# Altium integrated library mod_duo_x.IntLib: 41 symbols (part 2 of 2)
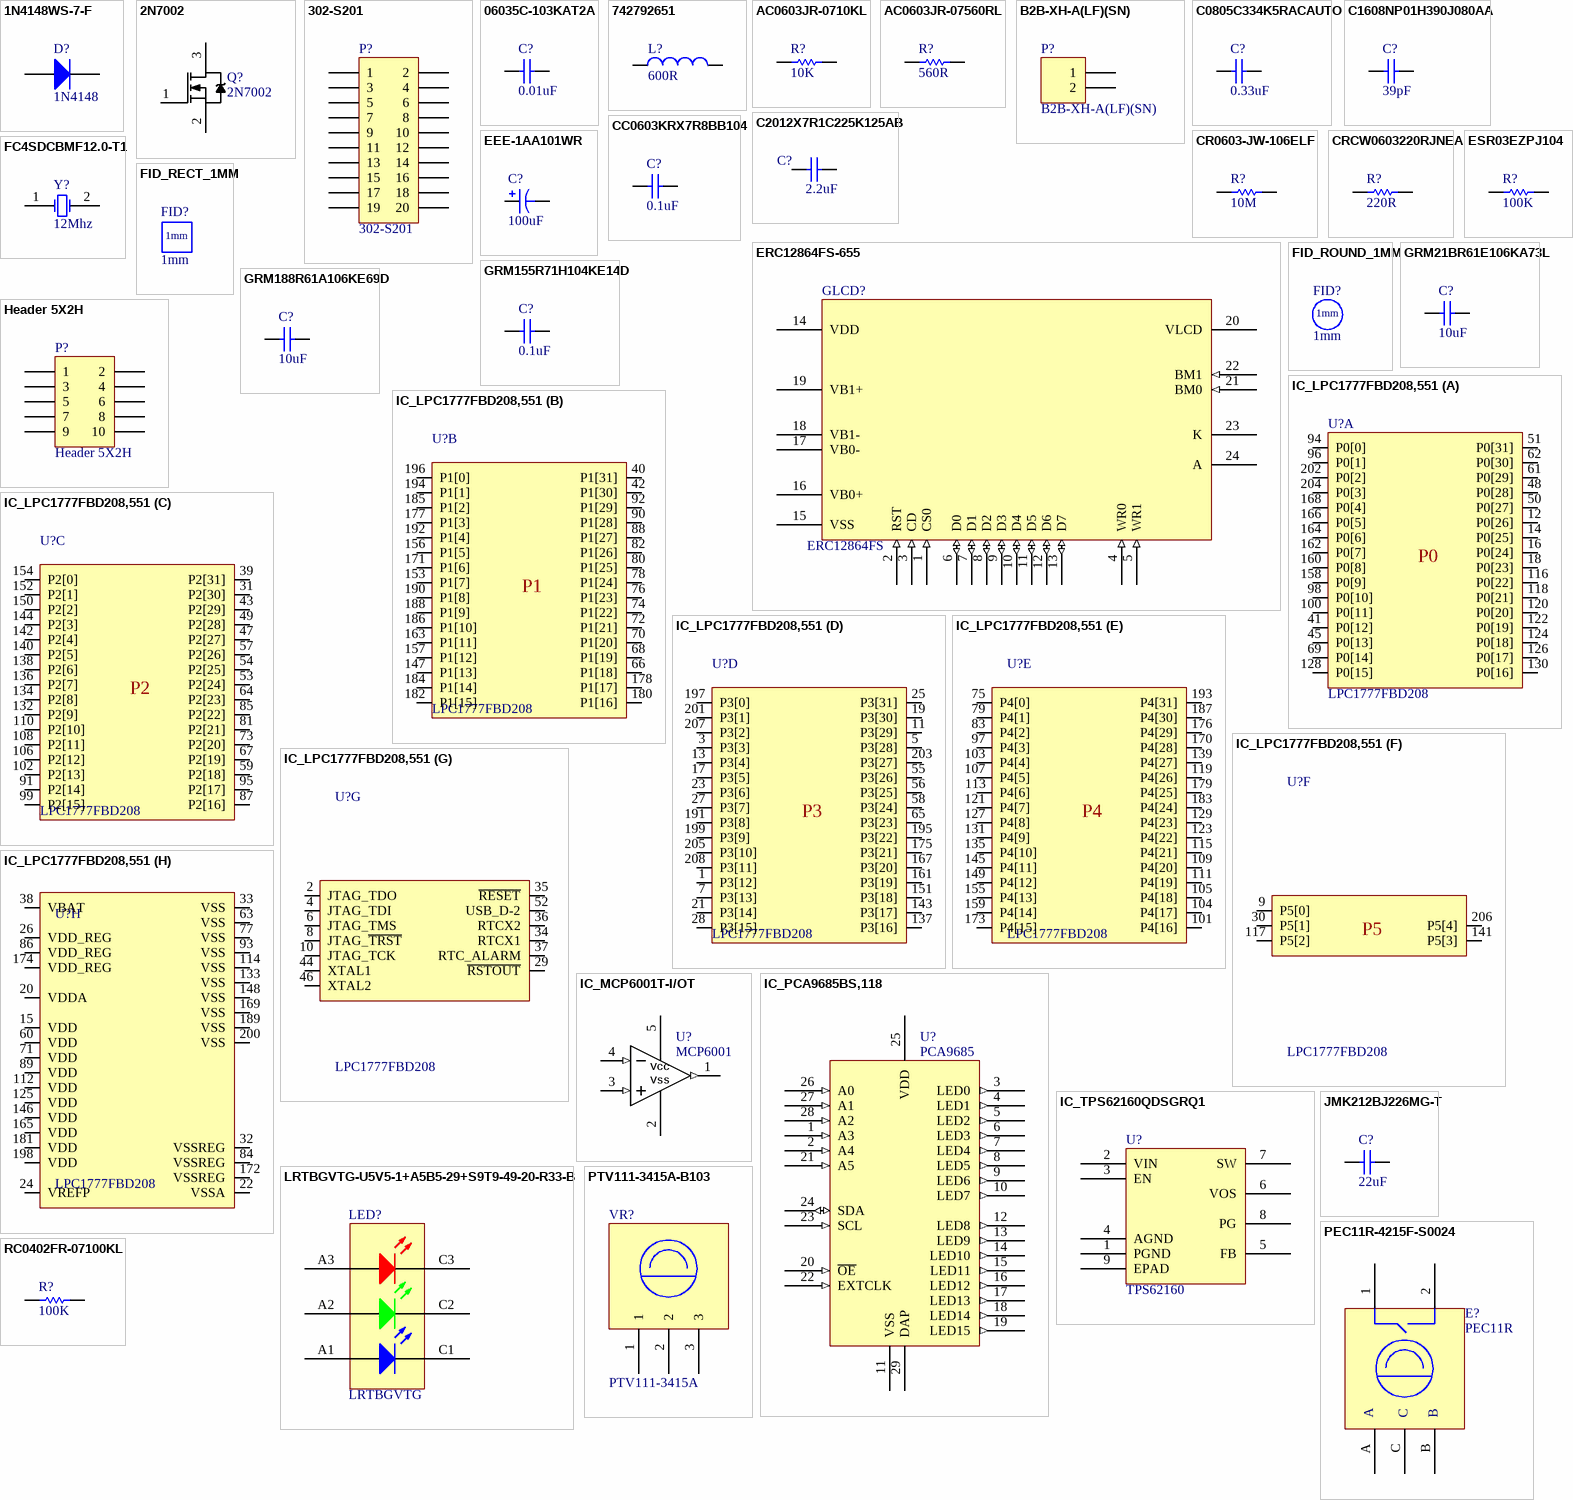
[diagram p2: symbols 1N4148WS-7-F to RC0402FR-07100KL]

## JMK212BJ226MG-T
designator C?, comment 22uF
CAP CER 22UF 6.3V X5R 0805; Manufacturer 1: Taiyo Yuden; Manufacturer Part Number 1: JMK212BJ226MG-T; PCN Part Number: X5R, X7R Dielectrics 23/Jan/2008; Catalog Drawings: xMK Series_0805_1.25; Capacitance: 22µF; Tolerance: ±20%; Online Catalog: M Series; Kits: 587-1797-KIT-ND  - KIT CAP CER HI CAP 0603 & 0805 S; Other Names: 587-1305-1; Supplier 1: Digi-Key; Description 1: CAP CER 22UF 6.3V X5R 0805; Stock 1: 877962; Pricing 1: 1=0.26, 10=0.18, 100=0.1021, 500=0.0721, 1000=0.0631 (USD); Standard Package: 1; Category: Capacitors; Family: Ceramic Capacitors; Series: M; Packaging: Cut Tape (CT); Voltage - Rated: 6.3V; Temperature Coefficient: X5R; Mounting Type: Surface Mount, MLCC; Operating Temperature: -55°C ~ 85°C; Applications: General Purpose; Ratings: -; Package / Case: 0805 (2012 Metric); Size / Dimension: 0.079" L x 0.049" W (2.00mm x 1.25mm); Height - Seated (Max): -; Thickness (Max): 0.053" (1.35mm); Lead Spacing: -; Features: -; Lead Style: -; ComponentLink1URL: https://datasheet.ciiva.com/26872/getdatasheetpartid-637391-26872056.pdf; ComponentLink1Description: https://datasheet.ciiva.com/26872/getdatasheetpartid-637391-26872056.pdf; ComponentLink2URL: https://datasheet.ciiva.com/15921/279jmk212abj226mg-t-15921060.pdf; ComponentLink2Description: https://datasheet.ciiva.com/15921/279jmk212abj226mg-t-15921060.pdf; ComponentLink3URL: https://datasheet.ciiva.com/30094/218jmk212abj226mg-t-30094177.pdf; ComponentLink3Description: https://datasheet.ciiva.com/30094/218jmk212abj226mg-t-30094177.pdf; ComponentLink4URL: https://datasheet.ciiva.com/5424/mlcc-all-e-541559-5424395.pdf; ComponentLink4Description: https://datasheet.ciiva.com/5424/mlcc-all-e-541559-5424395.pdf; ComponentLink5URL: https://datasheet.ciiva.com/137/mlcc-all-e-137394.pdf; ComponentLink5Description: https://datasheet.ciiva.com/137/mlcc-all-e-137394.pdf; ComponentLink6URL: https://datasheet.ciiva.com/137/mlcc-all-e-137395.pdf; ComponentLink6Description: https://datasheet.ciiva.com/137/mlcc-all-e-137395.pdf; ComponentLink7URL: https://datasheet.ciiva.com/137/mlcc-all-e-137396.pdf; ComponentLink7Description: https://datasheet.ciiva.com/137/mlcc-all-e-137396.pdf; Supplier Part Number 1: 587-1305-1-ND
footprint CAPC2012N (Chip Capacitor, Body 2.0x1.3mm, IPC Medium Density)
pins: 1, 2

## LRTBGVTG-U5V5-1+A5B5-29+S9T9-49-20-R33-B
designator LED?, comment LRTBGVTG
LED RGB DIFFUSED 6PLCC SMD; Manufacturer 1: Osram Opto; Manufacturer Part Number 1: LRTBGVTG-U5V5-1+A5B5-29+S9T9-49-20-R33-B; Supplier 1: Digi-Key; Stock 1: 16782; Pricing 1: 1=0.91, 10=0.707, 25=0.586, 100=0.5053, 250=0.44468, 500=0.38404, 1000=0.3032 (USD); Supplier Part Number 1: 475-3547-1-ND
footprint LRTB GVTG
pins: A1, A2, A3, C1, C2, C3

## PEC11R-4215F-S0024
designator E?, comment PEC11R
ENCODER ROTARY 15MM SHAFT; Manufacturer 1: Bourns; Manufacturer Part Number 1: PEC11R-4215F-S0024; Number of Channels: 2; Encoder Type: Mechanical; Pulses per Revolution: 24; Detent: Yes; Output Type: Quadrature,Incremental; Hole Diameter: 1.8mm; Supplier 1: Digi-Key; Stock 1: 2746; Pricing 1: 1=1.68, 10=1.566, 25=1.4792, 50=1.305, 150=1.073, 300=1.044, 600=0.986, 1050=0.928, 5100=0.812 (USD); Mount: Through Hole,Panel,PCB; Min Operating Temperature: -30°C; Max Operating Temperature: 70°C; Package Quantity: 150; Packaging: Bulk; Termination: PC Pins; Orientation: Vertical; Built in Switch: Yes; Type: Mechanical; Length: 21.5mm; Height: 13.4mm; Width: 12.5mm; Radiation Hardening: No; REACH SVHC: No SVHC; ComponentLink1URL: https://datasheet.ciiva.com/26917/getdatasheetpartid-730131-26917851.pdf; ComponentLink1Description: https://datasheet.ciiva.com/26917/getdatasheetpartid-730131-26917851.pdf; ComponentLink2URL: https://datasheet.ciiva.com/12175/pec11r-221203-12175422.pdf; ComponentLink2Description: https://datasheet.ciiva.com/12175/pec11r-221203-12175422.pdf; Supplier Part Number 1: PEC11R-4215F-S0024-ND
footprint PEC11R
pins: 1, 2, A, B, C

## PTV111-3415A-B103
designator VR?, comment PTV111-3415A
POT 10K OHM 1/20W CARBON LINEAR; Manufacturer 1: Bourns; Manufacturer Part Number 1: PTV111-3415A-B103; Resistance: 10kR; Tolerance: 20%; Power Rating: 50mW; Number of Turns: 1; Voltage Rating (DC): 20V; Actuator Length: 0.591inch; Actuator Diameter: 0.236inch; Hole Diameter: 9mm; Supplier 1: Digi-Key; Stock 1: 227; Pricing 1: 1=1.36, 10=1.2, 25=1.08, 50=1.04, 100=1, 300=0.94, 500=0.8, 1000=0.74, 5000=0.608 (USD); Mount: Through Hole,Panel,Brackets; Min Operating Temperature: -10°C; Max Operating Temperature: 50°C; Composition: Potentiometer,Carbon; Type: Potentiometer; Packaging: Bulk; Package Quantity: 100; Taper: Linear; Termination: Pin; Number of Gangs: 1; Military Standard: Not; Max Power Dissipation: 50mW; Length: 12mm; Height: 7.5mm; Radiation Hardening: No; REACH SVHC: No SVHC; ComponentLink1URL: https://datasheet.ciiva.com/11831/0900766b80fa58ed-11831312.pdf; ComponentLink1Description: https://datasheet.ciiva.com/11831/0900766b80fa58ed-11831312.pdf; ComponentLink2URL: https://datasheet.ciiva.com/6249/ptvptt-6249367.pdf; ComponentLink2Description: https://datasheet.ciiva.com/6249/ptvptt-6249367.pdf; Supplier Part Number 1: PTV111-3415A-B103-ND
footprint PTV111-3
pins: 1, 2, 3

## RC0402FR-07100KL
designator R?, comment 100K
RES SMD 100K OHM 1% 1/16W 0402; Manufacturer 1: Yageo; Manufacturer Part Number 1: RC0402FR-07100KL; Resistance: 100 kOhms; Power Rating: 62.5 mW (1/16 W); Voltage Rating: 50 V; Temperature Coefficient: 100 PPM / C; Supplier 1: Digi-Key; Description 1: RES SMD 100K OHM 1% 1/16W 0402; Stock 1: 10691398; Pricing 1: 1=0.1, 10=0.014, 100=0.0056, 1000=0.0025, 2500=0.0022, 5000=0.0018 (USD); Termination Style: SMD/SMT; Product: Thick Film Resistors General Purpose; Tolerance: 1 %; Case Code - in: 0402; Case Code - mm: 1005; Series: RC; Operating Temperature Range: - 55 C to + 155 C; Packaging: Reel; ComponentLink1URL: https://datasheet.ciiva.com/11819/0900766b80c66297-11819452.pdf; ComponentLink1Description: https://datasheet.ciiva.com/11819/0900766b80c66297-11819452.pdf; ComponentLink2URL: https://datasheet.ciiva.com/16740/pyu-rc0402-51-rohs-l-6-r-16740567.pdf; ComponentLink2Description: https://datasheet.ciiva.com/16740/pyu-rc0402-51-rohs-l-6-r-16740567.pdf; ComponentLink3URL: https://datasheet.ciiva.com/12667/pyu-rc0402-51-rohs-l-6-r-12667930.pdf; ComponentLink3Description: https://datasheet.ciiva.com/12667/pyu-rc0402-51-rohs-l-6-r-12667930.pdf; ComponentLink4URL: https://datasheet.ciiva.com/2453/pyu-r-int-thick-7-2453361.pdf; ComponentLink4Description: https://datasheet.ciiva.com/2453/pyu-r-int-thick-7-2453361.pdf; ComponentLink5URL: https://datasheet.ciiva.com/15189/getdatasheetpartid-323696-15189334.pdf; ComponentLink5Description: https://datasheet.ciiva.com/15189/getdatasheetpartid-323696-15189334.pdf; ComponentLink6URL: https://datasheet.ciiva.com/2453/pyu-r-int-thick-7-2453362.pdf; ComponentLink6Description: https://datasheet.ciiva.com/2453/pyu-r-int-thick-7-2453362.pdf; ComponentLink7URL: https://datasheet.ciiva.com/2453/pyu-r-int-thick-7-2453363.pdf; ComponentLink7Description: https://datasheet.ciiva.com/2453/pyu-r-int-thick-7-2453363.pdf; ComponentLink8URL: https://datasheet.ciiva.com/22747/1018594-22747509.pdf; ComponentLink8Description: https://datasheet.ciiva.com/22747/1018594-22747509.pdf; Supplier Part Number 1: 311-100KLRCT-ND
footprint RESC1005N (Chip Resistor, Body 1.1x0.5mm, IPC Medium Density)
pins: 1, 2

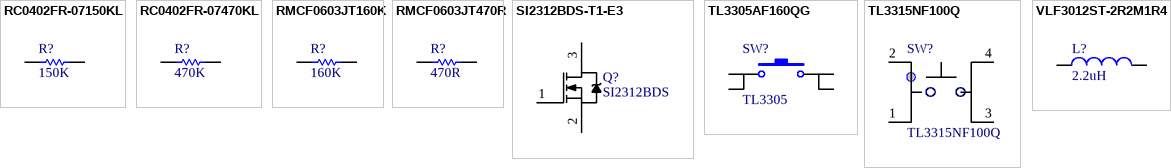
[diagram p1: symbols RC0402FR-07150KL to VLF3012ST-2R2M1R4]

## RC0402FR-07150KL
designator R?, comment 150K
RES SMD 150K OHM 1% 1/16W 0402; Manufacturer 1: Yageo; Manufacturer Part Number 1: RC0402FR-07150KL; Product Range: RC Series; Voltage Rating: 50V; Resistor Case Style: 0402 [1005 Metric]; Power Rating: 63mW; Resistor Element Type: Thick Film; Temperature Coefficient: ± 100ppm/°C; SVHC: To Be Advised; Supplier 1: Digi-Key; Description 1: RES SMD 150K OHM 1% 1/16W 0402; Stock 1: 2019467; Pricing 1: 1=0.1, 10=0.014, 100=0.0056, 1000=0.0025, 2500=0.0022, 5000=0.0018 (USD); Resistance: 150kohm; Resistance Tolerance: ± 1%; Packaging: Cut Tape; MSL: MSL 1 - Unlimited; ComponentLink1URL: https://datasheet.ciiva.com/7849/1018594-7849836.pdf; ComponentLink1Description: https://datasheet.ciiva.com/7849/1018594-7849836.pdf; ComponentLink2URL: https://datasheet.ciiva.com/6067/1686128-6067913.pdf; ComponentLink2Description: https://datasheet.ciiva.com/6067/1686128-6067913.pdf; ComponentLink3URL: https://datasheet.ciiva.com/7849/1018594-7849837.pdf; ComponentLink3Description: https://datasheet.ciiva.com/7849/1018594-7849837.pdf; ComponentLink4URL: https://datasheet.ciiva.com/15189/getdatasheetpartid-326416-15189356.pdf; ComponentLink4Description: https://datasheet.ciiva.com/15189/getdatasheetpartid-326416-15189356.pdf; ComponentLink5URL: https://datasheet.ciiva.com/16741/pyu-rc0402-51-rohs-l-6-r-16741080.pdf; ComponentLink5Description: https://datasheet.ciiva.com/16741/pyu-rc0402-51-rohs-l-6-r-16741080.pdf; ComponentLink6URL: https://datasheet.ciiva.com/2453/pyu-r-int-thick-7-2453602.pdf; ComponentLink6Description: https://datasheet.ciiva.com/2453/pyu-r-int-thick-7-2453602.pdf; ComponentLink7URL: https://datasheet.ciiva.com/2453/pyu-r-int-thick-7-2453601.pdf; ComponentLink7Description: https://datasheet.ciiva.com/2453/pyu-r-int-thick-7-2453601.pdf; ComponentLink8URL: https://datasheet.ciiva.com/7983/1018594-7983494.pdf; ComponentLink8Description: https://datasheet.ciiva.com/7983/1018594-7983494.pdf; ComponentLink9URL: https://datasheet.ciiva.com/2453/pyu-r-int-thick-7-2453603.pdf; ComponentLink9Description: https://datasheet.ciiva.com/2453/pyu-r-int-thick-7-2453603.pdf; Supplier Part Number 1: 311-150KLRCT-ND
footprint RESC1005N (Chip Resistor, Body 1.1x0.5mm, IPC Medium Density)
pins: 1, 2

## RC0402FR-07470KL
designator R?, comment 470K
RES SMD 470K OHM 1% 1/16W 0402; Manufacturer 1: Yageo; Manufacturer Part Number 1: RC0402FR-07470KL; Resistance: 470 kOhms; Power Rating: 62.5 mW (1/16 W); Voltage Rating: 50 V; Temperature Coefficient: 100 PPM / C; Supplier 1: Digi-Key; Description 1: RES SMD 470K OHM 1% 1/16W 0402; Stock 1: 1504485; Pricing 1: 1=0.1, 10=0.014, 100=0.0056, 1000=0.0025, 2500=0.0022, 5000=0.0018 (USD); Termination Style: SMD/SMT; Product: Thick Film Resistors General Purpose; Tolerance: 1 %; Case Code - in: 0402; Case Code - mm: 1005; Series: RC; Operating Temperature Range: - 55 C to + 155 C; Packaging: Reel; ComponentLink1URL: https://datasheet.ciiva.com/11819/0900766b80c66297-11819514.pdf; ComponentLink1Description: https://datasheet.ciiva.com/11819/0900766b80c66297-11819514.pdf; ComponentLink2URL: https://datasheet.ciiva.com/7850/1018594-7850013.pdf; ComponentLink2Description: https://datasheet.ciiva.com/7850/1018594-7850013.pdf; ComponentLink3URL: https://datasheet.ciiva.com/2453/pyu-r-int-thick-7-2453435.pdf; ComponentLink3Description: https://datasheet.ciiva.com/2453/pyu-r-int-thick-7-2453435.pdf; ComponentLink4URL: https://datasheet.ciiva.com/7850/1018594-7850012.pdf; ComponentLink4Description: https://datasheet.ciiva.com/7850/1018594-7850012.pdf; ComponentLink5URL: https://datasheet.ciiva.com/15189/getdatasheetpartid-325138-15189462.pdf; ComponentLink5Description: https://datasheet.ciiva.com/15189/getdatasheetpartid-325138-15189462.pdf; ComponentLink6URL: https://datasheet.ciiva.com/46412/1018594-46412837.pdf; ComponentLink6Description: https://datasheet.ciiva.com/46412/1018594-46412837.pdf; ComponentLink7URL: https://datasheet.ciiva.com/2453/pyu-r-int-thick-7-2453434.pdf; ComponentLink7Description: https://datasheet.ciiva.com/2453/pyu-r-int-thick-7-2453434.pdf; ComponentLink8URL: https://datasheet.ciiva.com/2453/pyu-r-int-thick-7-2453433.pdf; ComponentLink8Description: https://datasheet.ciiva.com/2453/pyu-r-int-thick-7-2453433.pdf; Supplier Part Number 1: 311-470KLRCT-ND
footprint RESC1005N (Chip Resistor, Body 1.1x0.5mm, IPC Medium Density)
pins: 1, 2

## RMCF0603JT160K
designator R?, comment 160K
RES SMD 160K OHM 5% 1/10W 0603; Manufacturer 1: Stackpole Electronics; Manufacturer Part Number 1: RMCF0603JT160K; Resistance: 160kR; Power Rating: 100mW; Temperature Coefficient: 100ppm/°C; Supplier 1: Digi-Key; Stock 1: 10640; Pricing 1: 1=0.1, 10=0.016, 100=0.0064, 1000=0.00289, 2500=0.0025 (USD); Mount: Surface Mount; Case/Package: 0603; Case Code (Metric): 1608; Case Code (Imperial): 0603; Contact Plating: Tin,Matte; Min Operating Temperature: -55°C; Max Operating Temperature: 155°C; Tolerance: 5%; Packaging: Tape and Reel; Composition: Thick Film; Number of Terminations: 2; Max Power Dissipation: 100mW; Features: Automotive AEC-Q200; Length: 0.061inch; Height: 0.022inch; Width: 0.031inch; Radiation Hardening: No; Lead Free: Lead Free; Supplier Part Number 1: RMCF0603JT160KCT-ND
footprint RESC1608N (Chip Resistor, Body 1.6x0.8mm, IPC Medium Density)
pins: 1, 2

## RMCF0603JT470R
designator R?, comment 470R
RES SMD 470 OHM 5% 1/10W 0603; Manufacturer 1: Stackpole Electronics; Manufacturer Part Number 1: RMCF0603JT470R; Power Rating: 100mW; Temperature Coefficient: 100ppm/°C; Working Voltage: 75V; Supplier 1: Digi-Key; Stock 1: 1799; Pricing 1: 1=0.1, 10=0.013, 100=0.0051, 1000=0.0023, 2500=0.002 (USD); Mount: Surface Mount; Case/Package: 0603; Case Code (Metric): 1608; Case Code (Imperial): 0603; Contact Plating: Tin,Matte; Min Operating Temperature: -55°C; Max Operating Temperature: 155°C; Packaging: Tape and Reel; Resistance: 470R; Tolerance: 5%; Package Quantity: 1; Composition: Thick Film; Number of Terminations: 2; Military Standard: Not; Max Power Dissipation: 100mW; Features: Automotive AEC-Q200; Length: 1.55mm; Height: 0.022inch; Width: 0.031inch; Depth: 0.8mm; Radiation Hardening: No; Lead Free: Lead Free; ComponentLink1URL: https://datasheet.ciiva.com/15193/getdatasheetpartid-360691-15193516.pdf; ComponentLink1Description: https://datasheet.ciiva.com/15193/getdatasheetpartid-360691-15193516.pdf; Supplier Part Number 1: RMCF0603JT470RCT-ND
footprint RESC1608N (Chip Resistor, Body 1.6x0.8mm, IPC Medium Density)
pins: 1, 2

## SI2312BDS-T1-E3
designator Q?, comment SI2312BDS
MOSFET N-CH 20V 3.9A 3-Pin TO-236 T/R; Manufacturer 1: Vishay; Manufacturer Part Number 1: SI2312BDS-T1-E3; Description 1: Trans MOSFET N-CH 20V 3.9A 3-Pin TO-236 T/R; Transistor Polarity: N Channel; On Resistance Rds(on): 0.025ohm; Rds(on) Test Voltage Vgs: 4.5V; Threshold Voltage Vgs: 850mV; Power Dissipation Pd: 750mW; Transistor Case Style: SOT-23; No. of Pins: 3Pins; SVHC: No SVHC (15-Jun-2015); Supplier 1: Digi-Key; Stock 1: 108734; Pricing 1: 1=0.53, 10=0.443, 100=0.3324, 500=0.2438, 1000=0.1884 (USD); Continuous Drain Current Id: 3.9A; Drain Source Voltage Vds: 20V; Operating Temperature Max: 150°C; Product Range: -; Automotive Qualification Standard: -; MSL: -; ComponentLink1URL: https://datasheet.ciiva.com/27051/1071716-27051353.pdf; ComponentLink1Description: https://datasheet.ciiva.com/27051/1071716-27051353.pdf; ComponentLink2URL: https://datasheet.ciiva.com/15224/getdatasheetpartid-89783-15224249.pdf; ComponentLink2Description: https://datasheet.ciiva.com/15224/getdatasheetpartid-89783-15224249.pdf; ComponentLink3URL: https://datasheet.ciiva.com/7789/1748936-7789029.pdf; ComponentLink3Description: https://datasheet.ciiva.com/7789/1748936-7789029.pdf; ComponentLink4URL: https://datasheet.ciiva.com/26137/si2312bd-26137872.pdf; ComponentLink4Description: https://datasheet.ciiva.com/26137/si2312bd-26137872.pdf; ComponentLink5URL: https://datasheet.ciiva.com/7788/110499-7788755.pdf; ComponentLink5Description: https://datasheet.ciiva.com/7788/110499-7788755.pdf; ComponentLink6URL: https://datasheet.ciiva.com/8115/si2312bd-8115084.pdf; ComponentLink6Description: https://datasheet.ciiva.com/8115/si2312bd-8115084.pdf; ComponentLink7URL: https://datasheet.ciiva.com/11161/si2312bd-11161451.pdf; ComponentLink7Description: https://datasheet.ciiva.com/11161/si2312bd-11161451.pdf; ComponentLink8URL: https://datasheet.ciiva.com/6388/si2312bd-6388218.pdf; ComponentLink8Description: https://datasheet.ciiva.com/6388/si2312bd-6388218.pdf; ComponentLink9URL: https://datasheet.ciiva.com/6388/si2312bd-6388215.pdf; ComponentLink9Description: https://datasheet.ciiva.com/6388/si2312bd-6388215.pdf; ComponentLink10URL: https://datasheet.ciiva.com/6388/si2312bd-6388216.pdf; ComponentLink10Description: https://datasheet.ciiva.com/6388/si2312bd-6388216.pdf; Supplier Part Number 1: SI2312BDS-T1-E3CT-ND
footprint SOT23-3N (SOT23, 3-Leads, Body 2.9x1.3mm, Pitch 0.95mm, Lead Span 2.5mm, IPC Medium Density)
pins: 1 G, 2 S, 3 D

## TL3305AF160QG
designator SW?, comment TL3305
SWITCH TACTILE SPST-NO 50MA 12V; Manufacturer 1: E-Switch; Manufacturer Part Number 1: TL3305AF160QG; Mechanical Life: 500000Cycles; Illumination Type: Non-Illuminated; Operating Force: 160gf; Throw Configuration: SPST; Switch Travel: 0.2mm; Switch Function: Off-Mom; Supplier 1: Digi-Key; Stock 1: 67156; Pricing 1: 1=0.22, 10=0.217, 25=0.2096, 50=0.202, 100=0.1907, 250=0.17952, 500=0.17204, 1000=0.1309 (USD); Mount: Surface Mount; Min Operating Temperature: -20°C; Max Operating Temperature: 70°C; Packaging: Tape and Reel; Termination: Gull Wing; Lead Free: Lead Free; Supplier Part Number 1: EG5350CT-ND
footprint TL3305
pins: 1, 2, 3, 4

## TL3315NF100Q
designator SW?
SWITCH TACTILE SPST-NO 0.05A 15V; Manufacturer 1: E-Switch; Mechanical Life: 1000000Cycles; Operating Force: 100gf; Current Rating: 50mA; Throw Configuration: SPST; Contact Resistance: 200mR; Illumination Type: Non-Illuminated; Switch Travel: 0.2mm; Switch Function: Off-Mom; Actuator Length: 0mm; Supplier 1: Digi-Key; Supplier Part Number 1: EG4620CT-ND; Manufacturer Part Number 1: TL3315NF100Q; Stock 1: 699659; Pricing 1: 1=0.22, 10=0.214, 25=0.2064, 50=0.199, 100=0.1879, 250=0.17688, 500=0.16952, 1000=0.12898 (USD); Mount: Surface Mount; Case/Package: SMD/SMT; Colour: Yellow; Contact Plating: Silver; Contact Material: Silver; Min Operating Temperature: -20°C; Max Operating Temperature: 70°C; Packaging: Tape and Reel; Voltage Rating (DC): 15V; Package Quantity: 1; Max Voltage Rating (DC): 15V; Termination: Gull Wing; Electrical Life: 1000000Cycles; Orientation: Straight; Lead Free: Lead Free; ComponentLink1URL: https://datasheet.ciiva.com/2900/p010336b-2900756.pdf; ComponentLink1Description: https://datasheet.ciiva.com/2900/p010336b-2900756.pdf; ComponentLink2URL: https://datasheet.ciiva.com/5284/tl3315-7499-5284548.pdf; ComponentLink2Description: https://datasheet.ciiva.com/5284/tl3315-7499-5284548.pdf; ComponentLink3URL: https://datasheet.ciiva.com/2900/tl3315-2900757.pdf; ComponentLink3Description: https://datasheet.ciiva.com/2900/tl3315-2900757.pdf; ComponentLink4URL: https://datasheet.ciiva.com/2900/tl3315-2900758.pdf; ComponentLink4Description: https://datasheet.ciiva.com/2900/tl3315-2900758.pdf; ComponentLink5URL: https://datasheet.ciiva.com/16156/tl3315-16156332.pdf; ComponentLink5Description: https://datasheet.ciiva.com/16156/tl3315-16156332.pdf
footprint TL3315
pins: 1, 2, 3, 4

## VLF3012ST-2R2M1R4
designator L?, comment 2.2uH
FIXED IND 2.2UH 1.4A 72 MOHM SMD; Manufacturer 1: TDK; Manufacturer Part Number 1: VLF3012ST-2R2M1R4; Catalog Drawings: VLF301(0,2)S Series Top VLF3012S Series Side VLF301(0,2)S Series Footprint; EDA / CAD Models: Download from Accelerated Designs; Type: Wirewound; Material - Core: Ferrite; Inductance: 2.2µH; Tolerance: ±20%; Shielding: Shielded; DC Resistance (DCR): 72 mOhm Max; Frequency - Test: 1MHz; Online Catalog: VLF Series; Other Names: 445-4200-6; Supplier 1: Digi-Key; Description 1: FIXED IND 2.2UH 1.4A 72 MOHM SMD; Stock 1: 64491; Pricing 1: 1=1.09, 10=1.009, 100=0.7297, 500=0.5589, 1000=0.4968 (USD); Standard Package: 1; Category: Inductors, Coils, Chokes; Family: Fixed Inductors; Series: VLF; Packaging: Digi-Reel®; Current Rating: 1.4A; Operating Temperature: -40°C ~ 105°C; Mounting Type: Surface Mount; Package / Case: Nonstandard; Size / Dimension: 0.118" L x 0.110" W (3.00mm x 2.80mm); Height - Seated (Max): 0.047" (1.20mm); ComponentLink1URL: http://components.arrow.com/part/dataview/0323_01997643; ComponentLink1Description: http://components.arrow.com/part/dataview/0323_01997643; ComponentLink2URL: https://product.tdk.com/en/search/inductor/inductor/smd/info?part_no=VLF3010AT-2R2M1R0; ComponentLink2Description: https://product.tdk.com/en/search/inductor/inductor/smd/info?part_no=VLF3010AT-2R2M1R0; ComponentLink3URL: //media.digikey.com/pdf/Data%20Sheets/TDK%20PDFs/VLF3012S.pdf; ComponentLink3Description: //media.digikey.com/pdf/Data%20Sheets/TDK%20PDFs/VLF3012S.pdf; ComponentLink4URL: http://www.tdk.com/s_details.php?class_code=TJA024&item_roots_key=VLF3012ST-2R2M1R4C46421010&item_name=VLF3012ST-2R2M1R4; ComponentLink4Description: http://www.tdk.com/s_details.php?class_code=TJA024&item_roots_key=VLF3012ST-2R2M1R4C46421010&item_name=VLF3012ST-2R2M1R4; Supplier Part Number 1: 445-4200-1-ND
footprint VLF3012ST-2R2M1R4
pins: 1, 2